# EAGLE library part TNY264-268 (library TOP-Switcher)
Enhanced, Energy efficient, Low Power Off-line Switcher ( 0....23W)
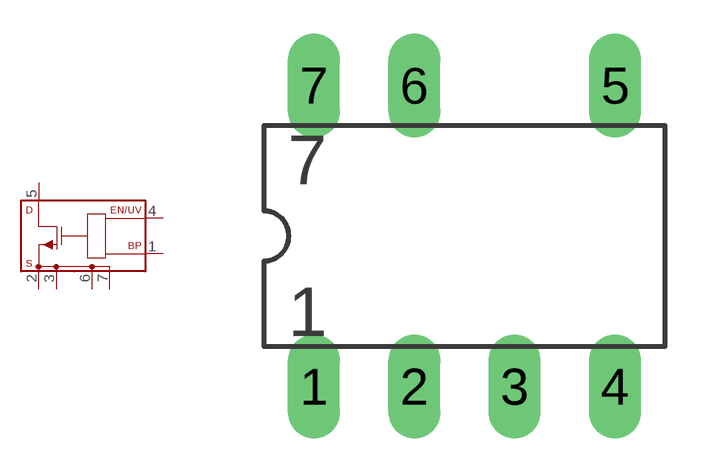
[diagram p1: symbol with the pads of DIP-8B; footprint DIP-8B]

Designator prefix IC

## TNY264-268DIP  [DIP-8B]
1  BP
2  S2
3  S3
4  EN/UV
5  D
6  S7
7  S8

## Footprint DIP-8B (pad centres in mm)
drill 0.813 long: 1 -3.81,-3.81; 2 -1.27,-3.81; 3 1.27,-3.81; 4 3.81,-3.81; 5 3.81,3.81; 6 -1.27,3.81; 7 -3.81,3.81